# Altium integrated library TI_Logic_Specialty_Logic.IntLib: 2504 symbols (part 14 of 81)
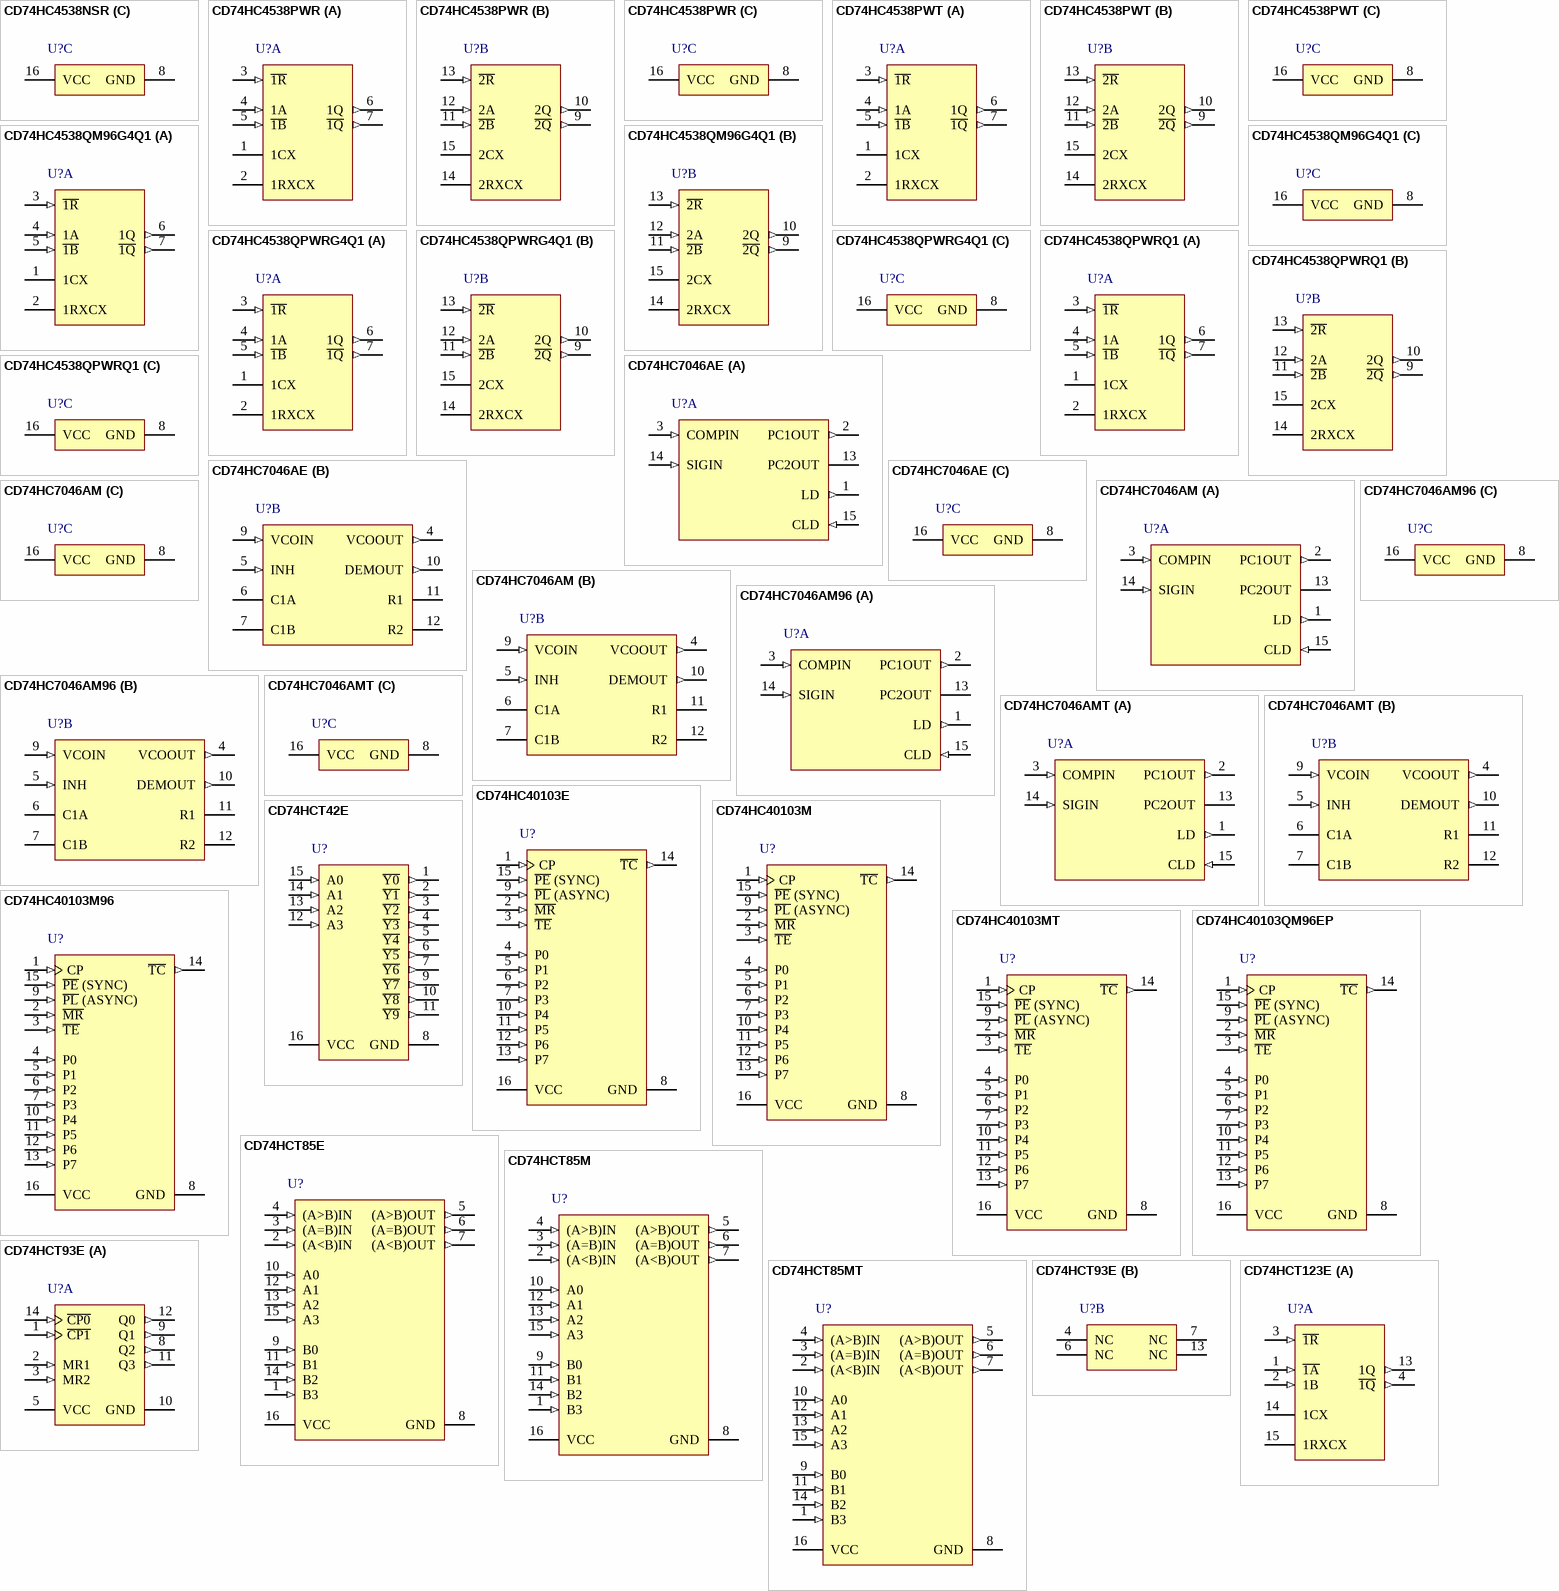
[diagram p117: symbols CD74HC4538NSR to CD74HCT123E]

## CD74HC4538PWR
designator U?
High Speed CMOS Logic Dual Retriggerable Precision Monostable Multivibrators, PW0016A, LARGE T&R; Generic Part Number: CD74HC4538; Manufacturer: Texas Instruments; PartNumber: CD74HC4538PWR; VCC(Min)(V): 2; VCC(Max)(V): 6; ICC @ Nom Voltage(Max)(mA): 0.08; Input Type: LVTTL/CMOS; F @ Nom Voltage(Max)(Mhz): 70; Rating: Catalog; Technology Family: HC; Voltage(Nom)(V): 3.3,5; Schmitt Trigger: No; Output Drive (IOL/IOH)(Max)(mA): 5.2/-5.2; tpd @ Nom Voltage(Max)(ns): 54; DatasheetVersion: SCHS123E; PackageReference: PW0016A; Supplier 1: Mouser; Supplier Part Number 1: 595-CD74HC4538PWR; Supplier 2: Digi-Key; Supplier Part Number 2: 296-26008-2-ND; Supplier 3: Digi-Key; Supplier Part Number 3: 296-26008-1-ND; Supplier 4: Digi-Key; Supplier Part Number 4: 296-26008-6-ND; Output Type: CMOS; Bits(#): 2; Operating Temperature Range(C): -55 to 125; Code_JEDEC: MO-153; ComponentLink1Description: Manufacturer URL; ComponentLink1URL: http://www.ti.com/; ComponentLink2Description: Datasheet; ComponentLink2URL: http://www.ti.com/lit/ds/symlink/cd74hc4538.pdf; ComponentLink3Description: Package Specification; ComponentLink3URL: http://www.ti.com/lit/ml/mpds361/mpds361.pdf
footprint PW0016A_N (SOP, 16-Leads, Body 5.1x4.5mm, Pitch 0.65mm, IPC Medium Density)
footprint PW0016A_M (SOP, 16-Leads, Body 5.1x4.5mm, Pitch 0.65mm, IPC Low Density)
footprint PW0016A_L (SOP, 16-Leads, Body 5.1x4.5mm, Pitch 0.65mm, IPC High Density)
part A pins: 1 1CX, 2 1RXCX, 3 ~{1R} (in), 4 1A (in), 5 ~{1B} (in), 6 1Q (out), 7 ~{1Q} (out)
part B pins: 9 ~{2Q} (out), 10 2Q (out), 11 ~{2B} (in), 12 2A (in), 13 ~{2R} (in), 14 2RXCX, 15 2CX
part C pins: 8 GND (power), 16 VCC (power)

## CD74HC4538PWT
designator U?
High Speed CMOS Logic Dual Retriggerable Precision Monostable Multivibrators, PW0016A, SMALL T&R; Generic Part Number: CD74HC4538; Manufacturer: Texas Instruments; PartNumber: CD74HC4538PWT; VCC(Min)(V): 2; VCC(Max)(V): 6; ICC @ Nom Voltage(Max)(mA): 0.08; Input Type: LVTTL/CMOS; F @ Nom Voltage(Max)(Mhz): 70; Rating: Catalog; Technology Family: HC; Voltage(Nom)(V): 3.3,5; Schmitt Trigger: No; Output Drive (IOL/IOH)(Max)(mA): 5.2/-5.2; tpd @ Nom Voltage(Max)(ns): 54; DatasheetVersion: SCHS123E; PackageReference: PW0016A; Supplier 1: Mouser; Supplier Part Number 1: 595-CD74HC4538PWT; Supplier 2: Digi-Key; Supplier Part Number 2: 296-32074-2-ND; Supplier 3: Digi-Key; Supplier Part Number 3: 296-32074-1-ND; Supplier 4: Digi-Key; Supplier Part Number 4: 296-32074-6-ND; Output Type: CMOS; Bits(#): 2; Operating Temperature Range(C): -55 to 125; Code_JEDEC: MO-153; ComponentLink1Description: Manufacturer URL; ComponentLink1URL: http://www.ti.com/; ComponentLink2Description: Datasheet; ComponentLink2URL: http://www.ti.com/lit/ds/symlink/cd74hc4538.pdf; ComponentLink3Description: Package Specification; ComponentLink3URL: http://www.ti.com/lit/ml/mpds361/mpds361.pdf
footprint PW0016A_N (SOP, 16-Leads, Body 5.1x4.5mm, Pitch 0.65mm, IPC Medium Density)
footprint PW0016A_M (SOP, 16-Leads, Body 5.1x4.5mm, Pitch 0.65mm, IPC Low Density)
footprint PW0016A_L (SOP, 16-Leads, Body 5.1x4.5mm, Pitch 0.65mm, IPC High Density)
part A pins: 1 1CX, 2 1RXCX, 3 ~{1R} (in), 4 1A (in), 5 ~{1B} (in), 6 1Q (out), 7 ~{1Q} (out)
part B pins: 9 ~{2Q} (out), 10 2Q (out), 11 ~{2B} (in), 12 2A (in), 13 ~{2R} (in), 14 2RXCX, 15 2CX
part C pins: 8 GND (power), 16 VCC (power)

## CD74HC4538QM96G4Q1
designator U?
Automotive Catalog High Speed CMOS Logic Dual Retriggerable Precision Monostable Multivibrators, D0016A, LARGE T&R; Generic Part Number: CD74HC4538-Q1; Manufacturer: Texas Instruments; PartNumber: CD74HC4538QM96G4Q1; VCC(Min)(V): 2; VCC(Max)(V): 6; ICC @ Nom Voltage(Max)(mA): 0.08; Input Type: LVTTL/CMOS; F @ Nom Voltage(Max)(Mhz): 70; Technology Family: HC; Voltage(Nom)(V): 3.3,5; Schmitt Trigger: No; Output Drive (IOL/IOH)(Max)(mA): 5.2/-5.2; tpd @ Nom Voltage(Max)(ns): 54; DatasheetVersion: SCLS595A; PackageReference: D0016A; Supplier 1: Mouser; Supplier Part Number 1: 595-74HC4538QM96G4Q1; Supplier 2: Digi-Key; Supplier Part Number 2: 296-23790-2-ND; Supplier 3: Digi-Key; Supplier Part Number 3: 296-23790-1-ND; Supplier 4: Digi-Key; Supplier Part Number 4: 296-23790-6-ND; Output Type: CMOS; Bits(#): 2; Operating Temperature Range(C): -40 to 125; Rating: Automotive; Code_JEDEC: MS-012 variation AC; ComponentLink1Description: Manufacturer URL; ComponentLink1URL: http://www.ti.com/; ComponentLink2Description: Datasheet; ComponentLink2URL: http://www.ti.com/lit/ds/symlink/cd74hc4538-q1.pdf; ComponentLink3Description: Package Specification; ComponentLink3URL: http://www.ti.com/lit/ml/mpds178g/mpds178g.pdf
footprint D0016A_N (SOIC, 16-Leads, Body 10x4mm, Pitch 1.27mm, IPC Medium Density)
footprint D0016A_M (SOIC, 16-Leads, Body 10x4mm, Pitch 1.27mm, IPC Low Density)
footprint D0016A_L (SOIC, 16-Leads, Body 10x4mm, Pitch 1.27mm, IPC High Density)
part A pins: 1 1CX, 2 1RXCX, 3 ~{1R} (in), 4 1A (in), 5 ~{1B} (in), 6 1Q (out), 7 ~{1Q} (out)
part B pins: 9 ~{2Q} (out), 10 2Q (out), 11 ~{2B} (in), 12 2A (in), 13 ~{2R} (in), 14 2RXCX, 15 2CX
part C pins: 8 GND (power), 16 VCC (power)

## CD74HC4538QPWRG4Q1
designator U?
Automotive Catalog High Speed CMOS Logic Dual Retriggerable Precision Monostable Multivibrators, PW0016A, LARGE T&R; Generic Part Number: CD74HC4538-Q1; Manufacturer: Texas Instruments; PartNumber: CD74HC4538QPWRG4Q1; VCC(Min)(V): 2; VCC(Max)(V): 6; ICC @ Nom Voltage(Max)(mA): 0.08; Input Type: LVTTL/CMOS; F @ Nom Voltage(Max)(Mhz): 70; Technology Family: HC; Voltage(Nom)(V): 3.3,5; Schmitt Trigger: No; Output Drive (IOL/IOH)(Max)(mA): 5.2/-5.2; tpd @ Nom Voltage(Max)(ns): 54; DatasheetVersion: SCLS595A; PackageReference: PW0016A; Supplier 1: Mouser; Supplier Part Number 1: 595-74HC4538QPWRG4Q1; Supplier 2: Digi-Key; Supplier Part Number 2: 296-23700-2-ND; Supplier 3: Digi-Key; Supplier Part Number 3: 296-23700-1-ND; Supplier 4: Digi-Key; Supplier Part Number 4: 296-23700-6-ND; Output Type: CMOS; Bits(#): 2; Operating Temperature Range(C): -40 to 125; Rating: Automotive; Code_JEDEC: MO-153; ComponentLink1Description: Manufacturer URL; ComponentLink1URL: http://www.ti.com/; ComponentLink2Description: Datasheet; ComponentLink2URL: http://www.ti.com/lit/ds/symlink/cd74hc4538-q1.pdf; ComponentLink3Description: Package Specification; ComponentLink3URL: http://www.ti.com/lit/ml/mpds361/mpds361.pdf
footprint PW0016A_N (SOP, 16-Leads, Body 5.1x4.5mm, Pitch 0.65mm, IPC Medium Density)
footprint PW0016A_M (SOP, 16-Leads, Body 5.1x4.5mm, Pitch 0.65mm, IPC Low Density)
footprint PW0016A_L (SOP, 16-Leads, Body 5.1x4.5mm, Pitch 0.65mm, IPC High Density)
part A pins: 1 1CX, 2 1RXCX, 3 ~{1R} (in), 4 1A (in), 5 ~{1B} (in), 6 1Q (out), 7 ~{1Q} (out)
part B pins: 9 ~{2Q} (out), 10 2Q (out), 11 ~{2B} (in), 12 2A (in), 13 ~{2R} (in), 14 2RXCX, 15 2CX
part C pins: 8 GND (power), 16 VCC (power)

## CD74HC4538QPWRQ1
designator U?
Automotive Catalog High Speed CMOS Logic Dual Retriggerable Precision Monostable Multivibrators, PW0016A, LARGE T&R; Generic Part Number: CD74HC4538-Q1; Manufacturer: Texas Instruments; PartNumber: CD74HC4538QPWRQ1; VCC(Min)(V): 2; VCC(Max)(V): 6; ICC @ Nom Voltage(Max)(mA): 0.08; Input Type: LVTTL/CMOS; F @ Nom Voltage(Max)(Mhz): 70; Technology Family: HC; Voltage(Nom)(V): 3.3,5; Schmitt Trigger: No; Output Drive (IOL/IOH)(Max)(mA): 5.2/-5.2; tpd @ Nom Voltage(Max)(ns): 54; DatasheetVersion: SCLS595A; PackageReference: PW0016A; Supplier 1: Mouser; Supplier Part Number 1: 595-CD74HC4538QPWRQ1; Supplier 2: Digi-Key; Supplier Part Number 2: CD74HC4538QPWRQ1-ND; Output Type: CMOS; Bits(#): 2; Operating Temperature Range(C): -40 to 125; Rating: Automotive; Code_JEDEC: MO-153; ComponentLink1Description: Manufacturer URL; ComponentLink1URL: http://www.ti.com/; ComponentLink2Description: Datasheet; ComponentLink2URL: http://www.ti.com/lit/ds/symlink/cd74hc4538-q1.pdf; ComponentLink3Description: Package Specification; ComponentLink3URL: http://www.ti.com/lit/ml/mpds361/mpds361.pdf
footprint PW0016A_N (SOP, 16-Leads, Body 5.1x4.5mm, Pitch 0.65mm, IPC Medium Density)
footprint PW0016A_M (SOP, 16-Leads, Body 5.1x4.5mm, Pitch 0.65mm, IPC Low Density)
footprint PW0016A_L (SOP, 16-Leads, Body 5.1x4.5mm, Pitch 0.65mm, IPC High Density)
part A pins: 1 1CX, 2 1RXCX, 3 ~{1R} (in), 4 1A (in), 5 ~{1B} (in), 6 1Q (out), 7 ~{1Q} (out)
part B pins: 9 ~{2Q} (out), 10 2Q (out), 11 ~{2B} (in), 12 2A (in), 13 ~{2R} (in), 14 2RXCX, 15 2CX
part C pins: 8 GND (power), 16 VCC (power)

## CD74HC7046AE
designator U?
High Speed CMOS Logic Phase-Locked Loop with VCO and Lock Detector, N0016A, TUBE; Generic Part Number: CD74HC7046A; Manufacturer: Texas Instruments; PartNumber: CD74HC7046AE; VCC(Min)(V): 2; VCC(Max)(V): 6; ICC @ Nom Voltage(Max)(mA): 0.08; Bits(#): 1; F @ Nom Voltage(Max)(Mhz): 70; Rating: Catalog; Technology Family: HC; Voltage(Nom)(V): 3.3,5; Schmitt Trigger: No; Output Drive (IOL/IOH)(Max)(mA): 5.2/-5.2; tpd @ Nom Voltage(Max)(ns): 43; DatasheetVersion: SCHS218C; PackageReference: N0016A; Supplier 1: Mouser; Supplier Part Number 1: 595-CD74HC7046AE; Supplier 2: Digi-Key; Supplier Part Number 2: 296-9237-5-ND; Output Type: CMOS; Input Type: CMOS; Operating Temperature Range(C): -55 to 125; ComponentLink1Description: Manufacturer URL; ComponentLink1URL: http://www.ti.com/; ComponentLink2Description: Datasheet; ComponentLink2URL: http://www.ti.com/lit/ds/symlink/cd74hc7046a.pdf
footprint N0016A (DIP, 16-Leads, Body 19.7x6.6mm, Pitch 2.54mm)
part A pins: 1 LD (out) "Lock Detector Output (Active High)", 2 PC1OUT (out) "Phase Comparator 1 Output", 3 COMPIN (in) "Comparator Input", 13 PC2OUT (hiz) "Phase Comparator 2 Output", 14 SIGIN (in) "Signal Input", 15 CLD (in) "Lock Detector Capacitor Input"
part B pins: 4 VCOOUT (out) "VCO Output", 5 INH (in) "Inhibit Input", 6 C1A "Capacitor C1 Connection A", 7 C1B "Capacitor C1 Connection B", 9 VCOIN (in) "VCO Input", 10 DEMOUT (out) "Demodulator Output", 11 R1 "Resistor R1 Connection", 12 R2 "Resistor R2 Connection"
part C pins: 8 GND (power) "Ground (0V)", 16 VCC (power) "Positive Supply Voltage"

## CD74HC7046AM
designator U?
High Speed CMOS Logic Phase-Locked Loop with VCO and Lock Detector, D0016A, TUBE; Generic Part Number: CD74HC7046A; Manufacturer: Texas Instruments; PartNumber: CD74HC7046AM; VCC(Min)(V): 2; VCC(Max)(V): 6; ICC @ Nom Voltage(Max)(mA): 0.08; Bits(#): 1; F @ Nom Voltage(Max)(Mhz): 70; Rating: Catalog; Technology Family: HC; Voltage(Nom)(V): 3.3,5; Schmitt Trigger: No; Output Drive (IOL/IOH)(Max)(mA): 5.2/-5.2; tpd @ Nom Voltage(Max)(ns): 43; DatasheetVersion: SCHS218C; PackageReference: D0016A; Supplier 1: Mouser; Supplier Part Number 1: 595-CD74HC7046AM; Supplier 2: Digi-Key; Supplier Part Number 2: 296-9238-5-ND; Output Type: CMOS; Input Type: CMOS; Operating Temperature Range(C): -55 to 125; ComponentLink1Description: Manufacturer URL; ComponentLink1URL: http://www.ti.com/; ComponentLink2Description: Datasheet; ComponentLink2URL: http://www.ti.com/lit/ds/symlink/cd74hc7046a.pdf
footprint D0016A_N (SOIC, 16-Leads, Body 10x4mm, Pitch 1.27mm, IPC Medium Density)
footprint D0016A_M (SOIC, 16-Leads, Body 10x4mm, Pitch 1.27mm, IPC Low Density)
footprint D0016A_L (SOIC, 16-Leads, Body 10x4mm, Pitch 1.27mm, IPC High Density)
part A pins: 1 LD (out) "Lock Detector Output (Active High)", 2 PC1OUT (out) "Phase Comparator 1 Output", 3 COMPIN (in) "Comparator Input", 13 PC2OUT (hiz) "Phase Comparator 2 Output", 14 SIGIN (in) "Signal Input", 15 CLD (in) "Lock Detector Capacitor Input"
part B pins: 4 VCOOUT (out) "VCO Output", 5 INH (in) "Inhibit Input", 6 C1A "Capacitor C1 Connection A", 7 C1B "Capacitor C1 Connection B", 9 VCOIN (in) "VCO Input", 10 DEMOUT (out) "Demodulator Output", 11 R1 "Resistor R1 Connection", 12 R2 "Resistor R2 Connection"
part C pins: 8 GND (power) "Ground (0V)", 16 VCC (power) "Positive Supply Voltage"

## CD74HC7046AM96
designator U?
High Speed CMOS Logic Phase-Locked Loop with VCO and Lock Detector, D0016A, LARGE T&R; Generic Part Number: CD74HC7046A; Manufacturer: Texas Instruments; PartNumber: CD74HC7046AM96; VCC(Min)(V): 2; VCC(Max)(V): 6; ICC @ Nom Voltage(Max)(mA): 0.08; Bits(#): 1; F @ Nom Voltage(Max)(Mhz): 70; Rating: Catalog; Technology Family: HC; Voltage(Nom)(V): 3.3,5; Schmitt Trigger: No; Output Drive (IOL/IOH)(Max)(mA): 5.2/-5.2; tpd @ Nom Voltage(Max)(ns): 43; DatasheetVersion: SCHS218C; PackageReference: D0016A; Supplier 1: Mouser; Supplier Part Number 1: 595-CD74HC7046AM96; Supplier 2: Digi-Key; Supplier Part Number 2: CD74HC7046AM96-ND; Output Type: CMOS; Input Type: CMOS; Operating Temperature Range(C): -55 to 125; ComponentLink1Description: Manufacturer URL; ComponentLink1URL: http://www.ti.com/; ComponentLink2Description: Datasheet; ComponentLink2URL: http://www.ti.com/lit/ds/symlink/cd74hc7046a.pdf
footprint D0016A_N (SOIC, 16-Leads, Body 10x4mm, Pitch 1.27mm, IPC Medium Density)
footprint D0016A_M (SOIC, 16-Leads, Body 10x4mm, Pitch 1.27mm, IPC Low Density)
footprint D0016A_L (SOIC, 16-Leads, Body 10x4mm, Pitch 1.27mm, IPC High Density)
part A pins: 1 LD (out) "Lock Detector Output (Active High)", 2 PC1OUT (out) "Phase Comparator 1 Output", 3 COMPIN (in) "Comparator Input", 13 PC2OUT (hiz) "Phase Comparator 2 Output", 14 SIGIN (in) "Signal Input", 15 CLD (in) "Lock Detector Capacitor Input"
part B pins: 4 VCOOUT (out) "VCO Output", 5 INH (in) "Inhibit Input", 6 C1A "Capacitor C1 Connection A", 7 C1B "Capacitor C1 Connection B", 9 VCOIN (in) "VCO Input", 10 DEMOUT (out) "Demodulator Output", 11 R1 "Resistor R1 Connection", 12 R2 "Resistor R2 Connection"
part C pins: 8 GND (power) "Ground (0V)", 16 VCC (power) "Positive Supply Voltage"

## CD74HC7046AMT
designator U?
High Speed CMOS Logic Phase-Locked Loop with VCO and Lock Detector, D0016A, SMALL T&R; Generic Part Number: CD74HC7046A; Manufacturer: Texas Instruments; PartNumber: CD74HC7046AMT; VCC(Min)(V): 2; VCC(Max)(V): 6; ICC @ Nom Voltage(Max)(mA): 0.08; Bits(#): 1; F @ Nom Voltage(Max)(Mhz): 70; Rating: Catalog; Technology Family: HC; Voltage(Nom)(V): 3.3,5; Schmitt Trigger: No; Output Drive (IOL/IOH)(Max)(mA): 5.2/-5.2; tpd @ Nom Voltage(Max)(ns): 43; DatasheetVersion: SCHS218C; PackageReference: D0016A; Supplier 1: Mouser; Supplier Part Number 1: 595-CD74HC7046AMT; Supplier 2: Digi-Key; Supplier Part Number 2: 296-32077-2-ND; Supplier 3: Digi-Key; Supplier Part Number 3: 296-32077-1-ND; Supplier 4: Digi-Key; Supplier Part Number 4: 296-32077-6-ND; Output Type: CMOS; Input Type: CMOS; Operating Temperature Range(C): -55 to 125; ComponentLink1Description: Manufacturer URL; ComponentLink1URL: http://www.ti.com/; ComponentLink2Description: Datasheet; ComponentLink2URL: http://www.ti.com/lit/ds/symlink/cd74hc7046a.pdf
footprint D0016A_N (SOIC, 16-Leads, Body 10x4mm, Pitch 1.27mm, IPC Medium Density)
footprint D0016A_M (SOIC, 16-Leads, Body 10x4mm, Pitch 1.27mm, IPC Low Density)
footprint D0016A_L (SOIC, 16-Leads, Body 10x4mm, Pitch 1.27mm, IPC High Density)
part A pins: 1 LD (out) "Lock Detector Output (Active High)", 2 PC1OUT (out) "Phase Comparator 1 Output", 3 COMPIN (in) "Comparator Input", 13 PC2OUT (hiz) "Phase Comparator 2 Output", 14 SIGIN (in) "Signal Input", 15 CLD (in) "Lock Detector Capacitor Input"
part B pins: 4 VCOOUT (out) "VCO Output", 5 INH (in) "Inhibit Input", 6 C1A "Capacitor C1 Connection A", 7 C1B "Capacitor C1 Connection B", 9 VCOIN (in) "VCO Input", 10 DEMOUT (out) "Demodulator Output", 11 R1 "Resistor R1 Connection", 12 R2 "Resistor R2 Connection"
part C pins: 8 GND (power) "Ground (0V)", 16 VCC (power) "Positive Supply Voltage"

## CD74HC40103E
designator U?
High Speed CMOS Logic 8-Stage Synchronous Down Counters, N0016A, TUBE; Generic Part Number: CD74HC40103; Manufacturer: Texas Instruments; PartNumber: CD74HC40103E; VCC(Min)(V): 2; VCC(Max)(V): 6; Inputs: 1; ICC @ Nom Voltage(Max)(mA): 0.08; Input Type: LVTTL/CMOS; Bits(#): 8; F @ Nom Voltage(Max)(Mhz): 28; Rating: Catalog; Technology Family: HC; Voltage(Nom)(V): 3.3,5; Schmitt Trigger: No; Output Drive (IOL/IOH)(Max)(mA): 5.2/-5.2; tpd @ Nom Voltage(Max)(ns): 64; DatasheetVersion: SCHS221D; PackageReference: N0016A; Supplier 1: Mouser; Supplier Part Number 1: 595-CD74HC40103E; Supplier 2: Digi-Key; Supplier Part Number 2: 296-9200-5-ND; Output Type: CMOS; Function: Counter; Operating Temperature Range(C): -55 to 125; Type: Binary; Code_JEDEC: MS-001; ComponentLink1Description: Manufacturer URL; ComponentLink1URL: http://www.ti.com/; ComponentLink2Description: Datasheet; ComponentLink2URL: http://www.ti.com/lit/ds/symlink/cd74hc40103.pdf; ComponentLink3Description: Package Specification; ComponentLink3URL: http://www.ti.com/lit/ml/mpdi002c/mpdi002c.pdf
footprint N0016A (DIP, 16-Leads, Body 19.7x6.6mm, Pitch 2.54mm)
pins: 1 CP (in), 2 ~{MR} (in), 3 ~{TE} (in), 4 P0 (in), 5 P1 (in), 6 P2 (in), 7 P3 (in), 8 GND (power), 9 ~{PL} (ASYNC) (in), 10 P4 (in), 11 P5 (in), 12 P6 (in), 13 P7 (in), 14 ~{TC} (out), 15 ~{PE} (SYNC) (in), 16 VCC (power)

## CD74HC40103M
designator U?
High Speed CMOS Logic 8-Stage Synchronous Down Counters, D0016A, TUBE; Generic Part Number: CD74HC40103; Manufacturer: Texas Instruments; PartNumber: CD74HC40103M; VCC(Min)(V): 2; VCC(Max)(V): 6; Inputs: 1; ICC @ Nom Voltage(Max)(mA): 0.08; Input Type: LVTTL/CMOS; Bits(#): 8; F @ Nom Voltage(Max)(Mhz): 28; Rating: Catalog; Technology Family: HC; Voltage(Nom)(V): 3.3,5; Schmitt Trigger: No; Output Drive (IOL/IOH)(Max)(mA): 5.2/-5.2; tpd @ Nom Voltage(Max)(ns): 64; DatasheetVersion: SCHS221D; PackageReference: D0016A; Supplier 1: Mouser; Supplier Part Number 1: 595-CD74HC40103M; Supplier 2: Digi-Key; Supplier Part Number 2: 296-9201-5-ND; Output Type: CMOS; Function: Counter; Operating Temperature Range(C): -55 to 125; Type: Binary; Code_JEDEC: MS-012 variation AC; ComponentLink1Description: Manufacturer URL; ComponentLink1URL: http://www.ti.com/; ComponentLink2Description: Datasheet; ComponentLink2URL: http://www.ti.com/lit/ds/symlink/cd74hc40103.pdf; ComponentLink3Description: Package Specification; ComponentLink3URL: http://www.ti.com/lit/ml/mpds178g/mpds178g.pdf
footprint D0016A_N (SOIC, 16-Leads, Body 10x4mm, Pitch 1.27mm, IPC Medium Density)
footprint D0016A_M (SOIC, 16-Leads, Body 10x4mm, Pitch 1.27mm, IPC Low Density)
footprint D0016A_L (SOIC, 16-Leads, Body 10x4mm, Pitch 1.27mm, IPC High Density)
pins: 1 CP (in), 2 ~{MR} (in), 3 ~{TE} (in), 4 P0 (in), 5 P1 (in), 6 P2 (in), 7 P3 (in), 8 GND (power), 9 ~{PL} (ASYNC) (in), 10 P4 (in), 11 P5 (in), 12 P6 (in), 13 P7 (in), 14 ~{TC} (out), 15 ~{PE} (SYNC) (in), 16 VCC (power)

## CD74HC40103M96
designator U?
High Speed CMOS Logic 8-Stage Synchronous Down Counters, D0016A, LARGE T&R; Generic Part Number: CD74HC40103; Manufacturer: Texas Instruments; PartNumber: CD74HC40103M96; VCC(Min)(V): 2; VCC(Max)(V): 6; Inputs: 1; ICC @ Nom Voltage(Max)(mA): 0.08; Input Type: LVTTL/CMOS; Bits(#): 8; F @ Nom Voltage(Max)(Mhz): 28; Rating: Catalog; Technology Family: HC; Voltage(Nom)(V): 3.3,5; Schmitt Trigger: No; Output Drive (IOL/IOH)(Max)(mA): 5.2/-5.2; tpd @ Nom Voltage(Max)(ns): 64; DatasheetVersion: SCHS221D; PackageReference: D0016A; Supplier 1: Mouser; Supplier Part Number 1: 595-CD74HC40103M96; Supplier 2: Digi-Key; Supplier Part Number 2: 296-24354-2-ND; Supplier 3: Digi-Key; Supplier Part Number 3: 296-24354-1-ND; Supplier 4: Digi-Key; Supplier Part Number 4: 296-24354-6-ND; Output Type: CMOS; Function: Counter; Operating Temperature Range(C): -55 to 125; Type: Binary; Code_JEDEC: MS-012 variation AC; ComponentLink1Description: Manufacturer URL; ComponentLink1URL: http://www.ti.com/; ComponentLink2Description: Datasheet; ComponentLink2URL: http://www.ti.com/lit/ds/symlink/cd74hc40103.pdf; ComponentLink3Description: Package Specification; ComponentLink3URL: http://www.ti.com/lit/ml/mpds178g/mpds178g.pdf
footprint D0016A_N (SOIC, 16-Leads, Body 10x4mm, Pitch 1.27mm, IPC Medium Density)
footprint D0016A_M (SOIC, 16-Leads, Body 10x4mm, Pitch 1.27mm, IPC Low Density)
footprint D0016A_L (SOIC, 16-Leads, Body 10x4mm, Pitch 1.27mm, IPC High Density)
pins: 1 CP (in), 2 ~{MR} (in), 3 ~{TE} (in), 4 P0 (in), 5 P1 (in), 6 P2 (in), 7 P3 (in), 8 GND (power), 9 ~{PL} (ASYNC) (in), 10 P4 (in), 11 P5 (in), 12 P6 (in), 13 P7 (in), 14 ~{TC} (out), 15 ~{PE} (SYNC) (in), 16 VCC (power)

## CD74HC40103MT
designator U?
High Speed CMOS Logic 8-Stage Synchronous Down Counters, D0016A, SMALL T&R; Generic Part Number: CD74HC40103; Manufacturer: Texas Instruments; PartNumber: CD74HC40103MT; VCC(Min)(V): 2; VCC(Max)(V): 6; Inputs: 1; ICC @ Nom Voltage(Max)(mA): 0.08; Input Type: LVTTL/CMOS; Bits(#): 8; F @ Nom Voltage(Max)(Mhz): 28; Rating: Catalog; Technology Family: HC; Voltage(Nom)(V): 3.3,5; Schmitt Trigger: No; Output Drive (IOL/IOH)(Max)(mA): 5.2/-5.2; tpd @ Nom Voltage(Max)(ns): 64; DatasheetVersion: SCHS221D; PackageReference: D0016A; Supplier 1: Mouser; Supplier Part Number 1: 595-CD74HC40103MT; Supplier 2: Digi-Key; Supplier Part Number 2: CD74HC40103MT-ND; Output Type: CMOS; Function: Counter; Operating Temperature Range(C): -55 to 125; Type: Binary; Code_JEDEC: MS-012 variation AC; ComponentLink1Description: Manufacturer URL; ComponentLink1URL: http://www.ti.com/; ComponentLink2Description: Datasheet; ComponentLink2URL: http://www.ti.com/lit/ds/symlink/cd74hc40103.pdf; ComponentLink3Description: Package Specification; ComponentLink3URL: http://www.ti.com/lit/ml/mpds178g/mpds178g.pdf
footprint D0016A_N (SOIC, 16-Leads, Body 10x4mm, Pitch 1.27mm, IPC Medium Density)
footprint D0016A_M (SOIC, 16-Leads, Body 10x4mm, Pitch 1.27mm, IPC Low Density)
footprint D0016A_L (SOIC, 16-Leads, Body 10x4mm, Pitch 1.27mm, IPC High Density)
pins: 1 CP (in), 2 ~{MR} (in), 3 ~{TE} (in), 4 P0 (in), 5 P1 (in), 6 P2 (in), 7 P3 (in), 8 GND (power), 9 ~{PL} (ASYNC) (in), 10 P4 (in), 11 P5 (in), 12 P6 (in), 13 P7 (in), 14 ~{TC} (out), 15 ~{PE} (SYNC) (in), 16 VCC (power)

## CD74HC40103QM96EP
designator U?
Enhanced Product High Speed Cmos Logic 8-Stage Synchronous Down Counters, D0016A, LARGE T&R; Generic Part Number: CD74HC40103-EP; Manufacturer: Texas Instruments; PartNumber: CD74HC40103QM96EP; VCC(Min)(V): 2; VCC(Max)(V): 6; Inputs: 1; ICC @ Nom Voltage(Max)(mA): 0.08; Bits(#): 8; F @ Nom Voltage(Max)(Mhz): 28; Rating: HiRel Enhanced Product; Technology Family: HC; Output Drive (IOL/IOH)(Max)(mA): 5.2/-5.2; tpd @ Nom Voltage(Max)(ns): 64; DatasheetVersion: SCLS548; PackageReference: D0016A; Supplier 1: Mouser; Supplier Part Number 1: 595-C74HC40103QM96EP; Supplier 2: Digi-Key; Supplier Part Number 2: 296-22101-2-ND; Supplier 3: Digi-Key; Supplier Part Number 3: 296-22101-1-ND; Supplier 4: Digi-Key; Supplier Part Number 4: 296-22101-6-ND; Function: Counter; Operating Temperature Range(C): -40 to 125; Type: Binary; Voltage(Nom)(V): 6; Code_JEDEC: MS-012 variation AC; ComponentLink1Description: Manufacturer URL; ComponentLink1URL: http://www.ti.com/; ComponentLink2Description: Datasheet; ComponentLink2URL: http://www.ti.com/lit/ds/symlink/cd74hc40103-ep.pdf; ComponentLink3Description: Package Specification; ComponentLink3URL: http://www.ti.com/lit/ml/mpds178g/mpds178g.pdf
footprint D0016A_N (SOIC, 16-Leads, Body 10x4mm, Pitch 1.27mm, IPC Medium Density)
footprint D0016A_M (SOIC, 16-Leads, Body 10x4mm, Pitch 1.27mm, IPC Low Density)
footprint D0016A_L (SOIC, 16-Leads, Body 10x4mm, Pitch 1.27mm, IPC High Density)
pins: 1 CP (in), 2 ~{MR} (in), 3 ~{TE} (in), 4 P0 (in), 5 P1 (in), 6 P2 (in), 7 P3 (in), 8 GND (power), 9 ~{PL} (ASYNC) (in), 10 P4 (in), 11 P5 (in), 12 P6 (in), 13 P7 (in), 14 ~{TC} (out), 15 ~{PE} (SYNC) (in), 16 VCC (power)

## CD74HCT42E
designator U?
High Speed CMOS Logic 1-of-10 BCD to Decimal Decoder, N0016A, TUBE; Generic Part Number: CD74HCT42; Manufacturer: Texas Instruments; PartNumber: CD74HCT42E; VCC(Min)(V): 4.5; VCC(Max)(V): 5.5; Function: Decoder/Demultiplexer; ICC @ Nom Voltage(Max)(mA): 0.08; Input Type: TTL; Bits(#): 10; F @ Nom Voltage(Max)(Mhz): 25; Configuration: 4：10; Channels(#): 1; Rating: Catalog; Technology Family: HCT; Voltage(Nom)(V): 5; Schmitt Trigger: No; Output Drive (IOL/IOH)(Max)(mA): 4/-4; tpd @ Nom Voltage(Max)(ns): 35; DatasheetVersion: SCHS133C; PackageReference: N0016A; Supplier 1: Mouser; Supplier Part Number 1: 595-CD74HCT42E; Supplier 2: Digi-Key; Supplier Part Number 2: 296-33157-5-ND; Output Type: CMOS; Operating Temperature Range(C): -55 to 125; Type: Standard; Code_JEDEC: MS-001; ComponentLink1Description: Manufacturer URL; ComponentLink1URL: http://www.ti.com/; ComponentLink2Description: Datasheet; ComponentLink2URL: http://www.ti.com/lit/ds/symlink/cd74hct42.pdf; ComponentLink3Description: Package Specification; ComponentLink3URL: http://www.ti.com/lit/ml/mpdi002c/mpdi002c.pdf
footprint N0016A (DIP, 16-Leads, Body 19.7x6.6mm, Pitch 2.54mm)
pins: 1 ~{Y0} (out), 2 ~{Y1} (out), 3 ~{Y2} (out), 4 ~{Y3} (out), 5 ~{Y4} (out), 6 ~{Y5} (out), 7 ~{Y6} (out), 8 GND (power), 9 ~{Y7} (out), 10 ~{Y8} (out), 11 ~{Y9} (out), 12 A3 (in), 13 A2 (in), 14 A1 (in), 15 A0 (in), 16 VCC (power)

## CD74HCT85E
designator U?
4-Bit Magnitude Comparator, N0016A, TUBE; Generic Part Number: CD74HCT85; Manufacturer: Texas Instruments; PartNumber: CD74HCT85E; VCC(Min)(V): 4.5; VCC(Max)(V): 5.5; Output Type: CMOS; ICC @ Nom Voltage(Max)(mA): 0.08; Input Type: TTL; Bits(#): 4; F @ Nom Voltage(Max)(Mhz): 70; Rating: Catalog; Technology Family: HCT; Schmitt Trigger: No; Output Drive (IOL/IOH)(Max)(mA): 4/-4; tpd @ Nom Voltage(Max)(ns): 50; DatasheetVersion: SCHS136E; PackageReference: N0016A; Supplier 1: Mouser; Supplier Part Number 1: 595-CD74HCT85E; Supplier 2: Digi-Key; Supplier Part Number 2: 296-2137-5-ND; Operating Temperature Range(C): -55 to 125; Voltage(Nom)(V): 4.5; ComponentLink1Description: Manufacturer URL; ComponentLink1URL: http://www.ti.com/; ComponentLink2Description: Datasheet; ComponentLink2URL: http://www.ti.com/lit/ds/symlink/cd74hct85.pdf
footprint N0016A (DIP, 16-Leads, Body 19.7x6.6mm, Pitch 2.54mm)
pins: 1 B3 (in), 2 (A<B)IN (in), 3 (A=B)IN (in), 4 (A>B)IN (in), 5 (A>B)OUT (out), 6 (A=B)OUT (out), 7 (A<B)OUT (out), 8 GND (power), 9 B0 (in), 10 A0 (in), 11 B1 (in), 12 A1 (in), 13 A2 (in), 14 B2 (in), 15 A3 (in), 16 VCC (power)

## CD74HCT85M
designator U?
4-Bit Magnitude Comparator, D0016A, TUBE; Generic Part Number: CD74HCT85; Manufacturer: Texas Instruments; PartNumber: CD74HCT85M; VCC(Min)(V): 4.5; VCC(Max)(V): 5.5; Output Type: CMOS; ICC @ Nom Voltage(Max)(mA): 0.08; Input Type: TTL; Bits(#): 4; F @ Nom Voltage(Max)(Mhz): 70; Rating: Catalog; Technology Family: HCT; Schmitt Trigger: No; Output Drive (IOL/IOH)(Max)(mA): 4/-4; tpd @ Nom Voltage(Max)(ns): 50; DatasheetVersion: SCHS136E; PackageReference: D0016A; Supplier 1: Mouser; Supplier Part Number 1: 595-CD74HCT85M; Supplier 2: Digi-Key; Supplier Part Number 2: 296-33166-5-ND; Operating Temperature Range(C): -55 to 125; Voltage(Nom)(V): 4.5; ComponentLink1Description: Manufacturer URL; ComponentLink1URL: http://www.ti.com/; ComponentLink2Description: Datasheet; ComponentLink2URL: http://www.ti.com/lit/ds/symlink/cd74hct85.pdf
footprint D0016A_N (SOIC, 16-Leads, Body 10x4mm, Pitch 1.27mm, IPC Medium Density)
footprint D0016A_M (SOIC, 16-Leads, Body 10x4mm, Pitch 1.27mm, IPC Low Density)
footprint D0016A_L (SOIC, 16-Leads, Body 10x4mm, Pitch 1.27mm, IPC High Density)
pins: 1 B3 (in), 2 (A<B)IN (in), 3 (A=B)IN (in), 4 (A>B)IN (in), 5 (A>B)OUT (out), 6 (A=B)OUT (out), 7 (A<B)OUT (out), 8 GND (power), 9 B0 (in), 10 A0 (in), 11 B1 (in), 12 A1 (in), 13 A2 (in), 14 B2 (in), 15 A3 (in), 16 VCC (power)

## CD74HCT85MT
designator U?
4-Bit Magnitude Comparator, D0016A, SMALL T&R; Generic Part Number: CD74HCT85; Manufacturer: Texas Instruments; PartNumber: CD74HCT85MT; VCC(Min)(V): 4.5; VCC(Max)(V): 5.5; Output Type: CMOS; ICC @ Nom Voltage(Max)(mA): 0.08; Input Type: TTL; Bits(#): 4; F @ Nom Voltage(Max)(Mhz): 70; Rating: Catalog; Technology Family: HCT; Schmitt Trigger: No; Output Drive (IOL/IOH)(Max)(mA): 4/-4; tpd @ Nom Voltage(Max)(ns): 50; DatasheetVersion: SCHS136E; PackageReference: D0016A; Supplier 1: Mouser; Supplier Part Number 1: 595-CD74HCT85MT; Supplier 2: Digi-Key; Supplier Part Number 2: 296-32084-2-ND; Supplier 3: Digi-Key; Supplier Part Number 3: 296-32084-1-ND; Supplier 4: Digi-Key; Supplier Part Number 4: 296-32084-6-ND; Operating Temperature Range(C): -55 to 125; Voltage(Nom)(V): 4.5; ComponentLink1Description: Manufacturer URL; ComponentLink1URL: http://www.ti.com/; ComponentLink2Description: Datasheet; ComponentLink2URL: http://www.ti.com/lit/ds/symlink/cd74hct85.pdf
footprint D0016A_N (SOIC, 16-Leads, Body 10x4mm, Pitch 1.27mm, IPC Medium Density)
footprint D0016A_M (SOIC, 16-Leads, Body 10x4mm, Pitch 1.27mm, IPC Low Density)
footprint D0016A_L (SOIC, 16-Leads, Body 10x4mm, Pitch 1.27mm, IPC High Density)
pins: 1 B3 (in), 2 (A<B)IN (in), 3 (A=B)IN (in), 4 (A>B)IN (in), 5 (A>B)OUT (out), 6 (A=B)OUT (out), 7 (A<B)OUT (out), 8 GND (power), 9 B0 (in), 10 A0 (in), 11 B1 (in), 12 A1 (in), 13 A2 (in), 14 B2 (in), 15 A3 (in), 16 VCC (power)

## CD74HCT93E
designator U?
High Speed CMOS Logic 4-Bit Binary Ripple Counter, N0014A, TUBE; Generic Part Number: CD74HCT93; Manufacturer: Texas Instruments; PartNumber: CD74HCT93E; VCC(Min)(V): 4.5; VCC(Max)(V): 5.5; Inputs: 1; ICC @ Nom Voltage(Max)(mA): 0.08; Input Type: TTL; Bits(#): 4; F @ Nom Voltage(Max)(Mhz): 25; Rating: Catalog; Technology Family: HCT; Voltage(Nom)(V): 5; Schmitt Trigger: No; Output Drive (IOL/IOH)(Max)(mA): 4/-4; tpd @ Nom Voltage(Max)(ns): 73; DatasheetVersion: SCHS138C; PackageReference: N0014A; Supplier 1: Mouser; Supplier Part Number 1: 595-CD74HCT93E; Supplier 2: Digi-Key; Supplier Part Number 2: 296-2138-5-ND; Output Type: CMOS; Function: Counter; Operating Temperature Range(C): -55 to 125; Type: Binary; Code_JEDEC: MS-001; ComponentLink1Description: Manufacturer URL; ComponentLink1URL: http://www.ti.com/; ComponentLink2Description: Datasheet; ComponentLink2URL: http://www.ti.com/lit/ds/symlink/cd74hct93.pdf; ComponentLink3Description: Package Specification; ComponentLink3URL: http://www.ti.com/lit/ml/mpdi002c/mpdi002c.pdf
footprint N0014A (DIP, 14-Leads, Body 19.7x6.6mm, Pitch 2.54mm)
part A pins: 1 ~{CP1} (in), 2 MR1 (in), 3 MR2 (in), 5 VCC (power), 8 Q2 (out), 9 Q1 (out), 10 GND (power), 11 Q3 (out), 12 Q0 (out), 14 ~{CP0} (in)
part B pins: 4 NC, 6 NC, 7 NC, 13 NC

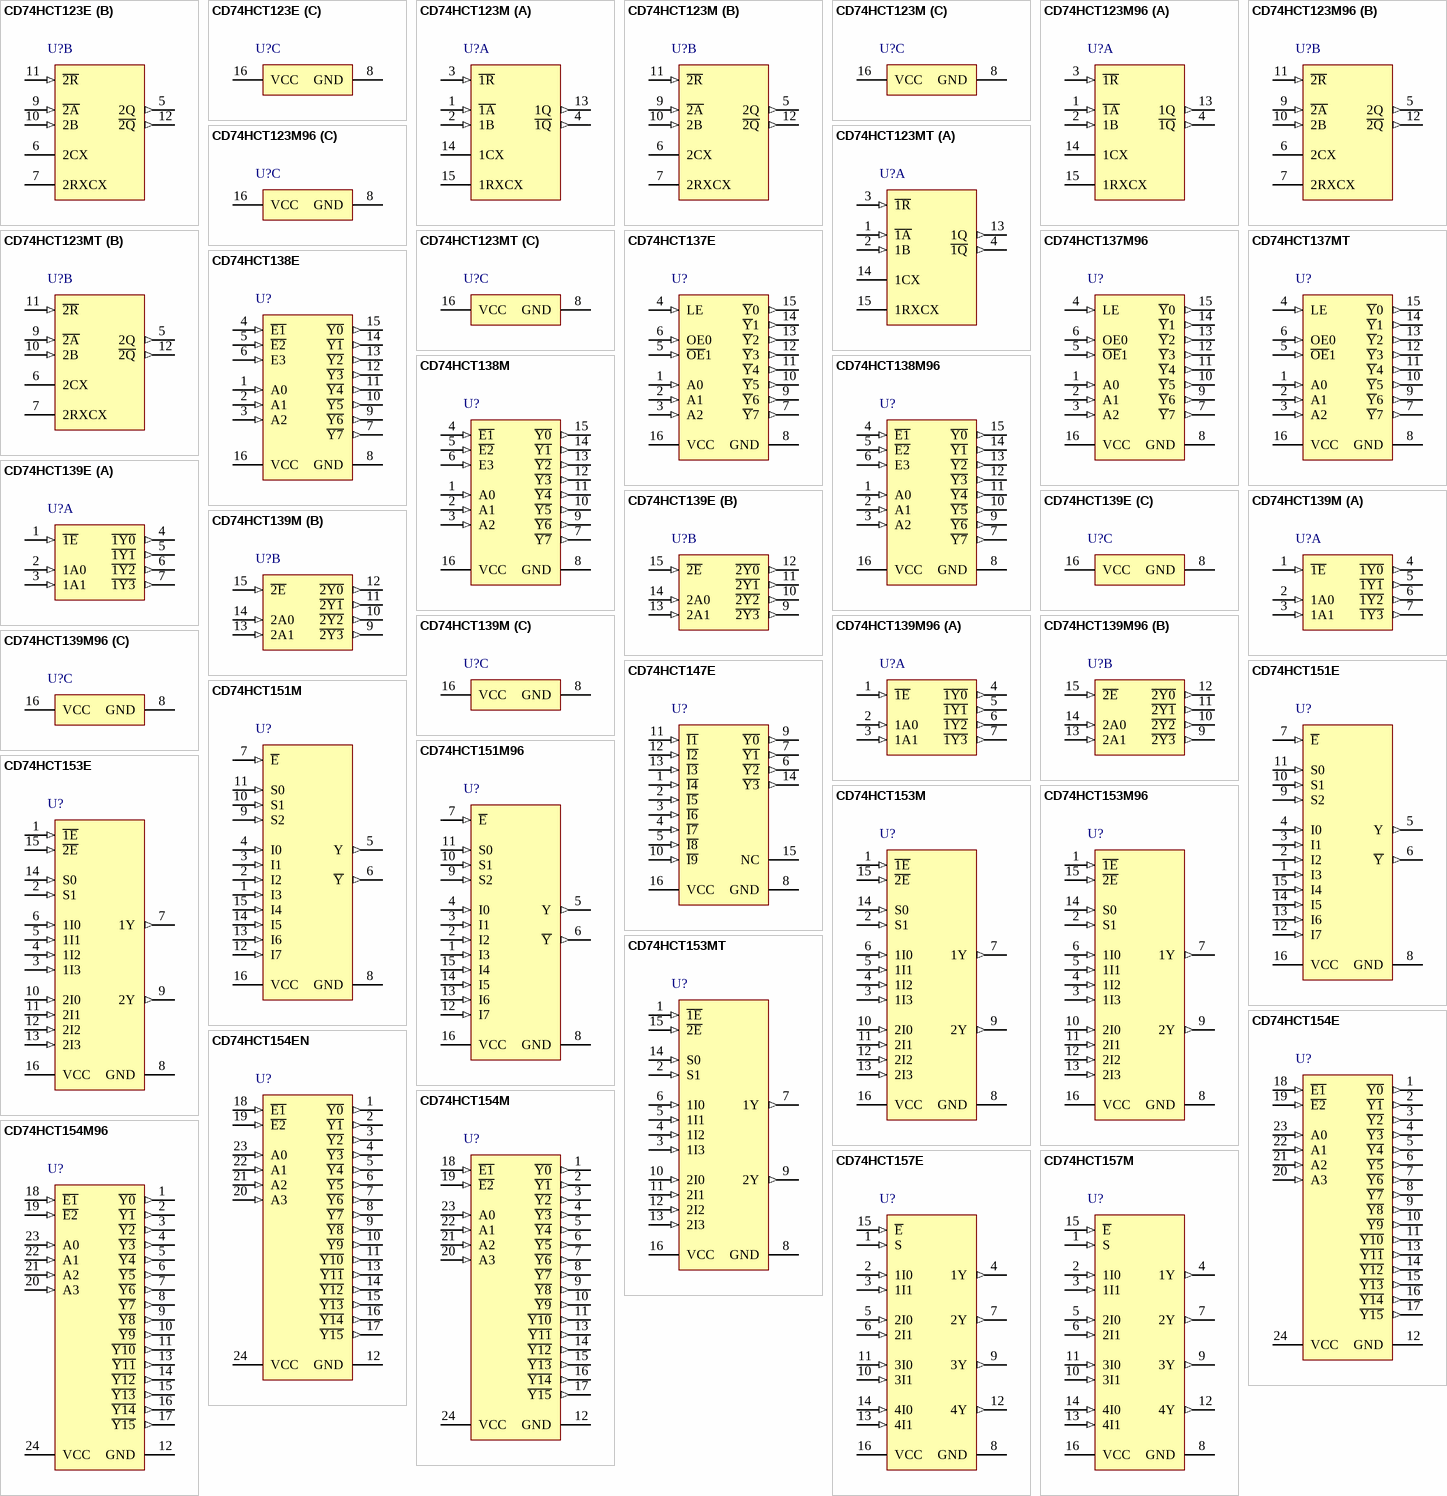
[diagram p18: symbols CD74HCT123E to CD74HCT157M]

## CD74HCT123E
designator U?
High Speed CMOS Logic Dual Retriggerable Monostable Multivibrators with Reset, N0016A, TUBE; Generic Part Number: CD74HCT123; Manufacturer: Texas Instruments; PartNumber: CD74HCT123E; VCC(Min)(V): 4.5; VCC(Max)(V): 5.5; ICC @ Nom Voltage(Max)(mA): 0.08; Input Type: TTL; Bits(#): 2; F @ Nom Voltage(Max)(Mhz): 25; Rating: Catalog; Technology Family: HCT; Voltage(Nom)(V): 5; Schmitt Trigger: No; Output Drive (IOL/IOH)(Max)(mA): 4/-4; tpd @ Nom Voltage(Max)(ns): 85; DatasheetVersion: SCHS142F; PackageReference: N0016A; Supplier 1: Mouser; Supplier Part Number 1: 595-CD74HCT123E; Supplier 2: Digi-Key; Supplier Part Number 2: 296-2088-5-ND; Output Type: CMOS; Operating Temperature Range(C): -55 to 125; Code_JEDEC: MS-001; ComponentLink1Description: Manufacturer URL; ComponentLink1URL: http://www.ti.com/; ComponentLink2Description: Datasheet; ComponentLink2URL: http://www.ti.com/lit/ds/symlink/cd74hct123.pdf; ComponentLink3Description: Package Specification; ComponentLink3URL: http://www.ti.com/lit/ml/mpdi002c/mpdi002c.pdf
footprint N0016A (DIP, 16-Leads, Body 19.7x6.6mm, Pitch 2.54mm)
part A pins: 1 ~{1A} (in), 2 1B (in), 3 ~{1R} (in), 4 ~{1Q} (out), 13 1Q (out), 14 1CX, 15 1RXCX
part B pins: 5 2Q (out), 6 2CX, 7 2RXCX, 9 ~{2A} (in), 10 2B (in), 11 ~{2R} (in), 12 ~{2Q} (out)
part C pins: 8 GND (power), 16 VCC (power)

## CD74HCT123M
designator U?
High Speed CMOS Logic Dual Retriggerable Monostable Multivibrators with Reset, D0016A, TUBE; Generic Part Number: CD74HCT123; Manufacturer: Texas Instruments; PartNumber: CD74HCT123M; VCC(Min)(V): 4.5; VCC(Max)(V): 5.5; ICC @ Nom Voltage(Max)(mA): 0.08; Input Type: TTL; Bits(#): 2; F @ Nom Voltage(Max)(Mhz): 25; Rating: Catalog; Technology Family: HCT; Voltage(Nom)(V): 5; Schmitt Trigger: No; Output Drive (IOL/IOH)(Max)(mA): 4/-4; tpd @ Nom Voltage(Max)(ns): 85; DatasheetVersion: SCHS142F; PackageReference: D0016A; Supplier 1: Mouser; Supplier Part Number 1: 595-CD74HCT123M; Supplier 2: Digi-Key; Supplier Part Number 2: 296-9250-5-ND; Output Type: CMOS; Operating Temperature Range(C): -55 to 125; Code_JEDEC: MS-012 variation AC; ComponentLink1Description: Manufacturer URL; ComponentLink1URL: http://www.ti.com/; ComponentLink2Description: Datasheet; ComponentLink2URL: http://www.ti.com/lit/ds/symlink/cd74hct123.pdf; ComponentLink3Description: Package Specification; ComponentLink3URL: http://www.ti.com/lit/ml/mpds178g/mpds178g.pdf
footprint D0016A_N (SOIC, 16-Leads, Body 10x4mm, Pitch 1.27mm, IPC Medium Density)
footprint D0016A_M (SOIC, 16-Leads, Body 10x4mm, Pitch 1.27mm, IPC Low Density)
footprint D0016A_L (SOIC, 16-Leads, Body 10x4mm, Pitch 1.27mm, IPC High Density)
part A pins: 1 ~{1A} (in), 2 1B (in), 3 ~{1R} (in), 4 ~{1Q} (out), 13 1Q (out), 14 1CX, 15 1RXCX
part B pins: 5 2Q (out), 6 2CX, 7 2RXCX, 9 ~{2A} (in), 10 2B (in), 11 ~{2R} (in), 12 ~{2Q} (out)
part C pins: 8 GND (power), 16 VCC (power)

## CD74HCT123M96
designator U?
High Speed CMOS Logic Dual Retriggerable Monostable Multivibrators with Reset, D0016A, LARGE T&R; Generic Part Number: CD74HCT123; Manufacturer: Texas Instruments; PartNumber: CD74HCT123M96; VCC(Min)(V): 4.5; VCC(Max)(V): 5.5; ICC @ Nom Voltage(Max)(mA): 0.08; Input Type: TTL; Bits(#): 2; F @ Nom Voltage(Max)(Mhz): 25; Rating: Catalog; Technology Family: HCT; Voltage(Nom)(V): 5; Schmitt Trigger: No; Output Drive (IOL/IOH)(Max)(mA): 4/-4; tpd @ Nom Voltage(Max)(ns): 85; DatasheetVersion: SCHS142F; PackageReference: D0016A; Supplier 1: Mouser; Supplier Part Number 1: 595-CD74HCT123M96; Supplier 2: Digi-Key; Supplier Part Number 2: 296-31602-2-ND; Supplier 3: Digi-Key; Supplier Part Number 3: 296-31602-1-ND; Supplier 4: Digi-Key; Supplier Part Number 4: 296-31602-6-ND; Output Type: CMOS; Operating Temperature Range(C): -55 to 125; Code_JEDEC: MS-012 variation AC; ComponentLink1Description: Manufacturer URL; ComponentLink1URL: http://www.ti.com/; ComponentLink2Description: Datasheet; ComponentLink2URL: http://www.ti.com/lit/ds/symlink/cd74hct123.pdf; ComponentLink3Description: Package Specification; ComponentLink3URL: http://www.ti.com/lit/ml/mpds178g/mpds178g.pdf
footprint D0016A_N (SOIC, 16-Leads, Body 10x4mm, Pitch 1.27mm, IPC Medium Density)
footprint D0016A_M (SOIC, 16-Leads, Body 10x4mm, Pitch 1.27mm, IPC Low Density)
footprint D0016A_L (SOIC, 16-Leads, Body 10x4mm, Pitch 1.27mm, IPC High Density)
part A pins: 1 ~{1A} (in), 2 1B (in), 3 ~{1R} (in), 4 ~{1Q} (out), 13 1Q (out), 14 1CX, 15 1RXCX
part B pins: 5 2Q (out), 6 2CX, 7 2RXCX, 9 ~{2A} (in), 10 2B (in), 11 ~{2R} (in), 12 ~{2Q} (out)
part C pins: 8 GND (power), 16 VCC (power)

## CD74HCT123MT
designator U?
High Speed CMOS Logic Dual Retriggerable Monostable Multivibrators with Reset, D0016A, SMALL T&R; Generic Part Number: CD74HCT123; Manufacturer: Texas Instruments; PartNumber: CD74HCT123MT; VCC(Min)(V): 4.5; VCC(Max)(V): 5.5; ICC @ Nom Voltage(Max)(mA): 0.08; Input Type: TTL; Bits(#): 2; F @ Nom Voltage(Max)(Mhz): 25; Rating: Catalog; Technology Family: HCT; Voltage(Nom)(V): 5; Schmitt Trigger: No; Output Drive (IOL/IOH)(Max)(mA): 4/-4; tpd @ Nom Voltage(Max)(ns): 85; DatasheetVersion: SCHS142F; PackageReference: D0016A; Supplier 1: Mouser; Supplier Part Number 1: 595-CD74HCT123MT; Supplier 2: Digi-Key; Supplier Part Number 2: CD74HCT123MT-ND; Output Type: CMOS; Operating Temperature Range(C): -55 to 125; Code_JEDEC: MS-012 variation AC; ComponentLink1Description: Manufacturer URL; ComponentLink1URL: http://www.ti.com/; ComponentLink2Description: Datasheet; ComponentLink2URL: http://www.ti.com/lit/ds/symlink/cd74hct123.pdf; ComponentLink3Description: Package Specification; ComponentLink3URL: http://www.ti.com/lit/ml/mpds178g/mpds178g.pdf
footprint D0016A_N (SOIC, 16-Leads, Body 10x4mm, Pitch 1.27mm, IPC Medium Density)
footprint D0016A_M (SOIC, 16-Leads, Body 10x4mm, Pitch 1.27mm, IPC Low Density)
footprint D0016A_L (SOIC, 16-Leads, Body 10x4mm, Pitch 1.27mm, IPC High Density)
part A pins: 1 ~{1A} (in), 2 1B (in), 3 ~{1R} (in), 4 ~{1Q} (out), 13 1Q (out), 14 1CX, 15 1RXCX
part B pins: 5 2Q (out), 6 2CX, 7 2RXCX, 9 ~{2A} (in), 10 2B (in), 11 ~{2R} (in), 12 ~{2Q} (out)
part C pins: 8 GND (power), 16 VCC (power)

## CD74HCT137E
designator U?
High Speed CMOS Logic 3-to-8 Line Decoder/Demultiplexer with Address Latches, N0016A, TUBE; Generic Part Number: CD74HCT137; Manufacturer: Texas Instruments; PartNumber: CD74HCT137E; VCC(Min)(V): 4.5; VCC(Max)(V): 5.5; ICC @ Nom Voltage(Max)(mA): 0.08; Input Type: TTL; Bits(#): 8; F @ Nom Voltage(Max)(Mhz): 25; Configuration: 3：8; Channels(#): 1; Rating: Catalog; Technology Family: HCT; Voltage(Nom)(V): 5; Schmitt Trigger: No; Output Drive (IOL/IOH)(Max)(mA): 4/-4; tpd @ Nom Voltage(Max)(ns): 16; DatasheetVersion: SCHS146F; PackageReference: N0016A; Supplier 1: Mouser; Supplier Part Number 1: 595-CD74HCT137E; Supplier 2: Digi-Key; Supplier Part Number 2: 296-33129-5-ND; Output Type: CMOS; Function: Decoder/Demultiplexer; Operating Temperature Range(C): -55 to 125; Type: Standard; Code_JEDEC: MS-001; ComponentLink1Description: Manufacturer URL; ComponentLink1URL: http://www.ti.com/; ComponentLink2Description: Datasheet; ComponentLink2URL: http://www.ti.com/lit/ds/symlink/cd74hct137.pdf; ComponentLink3Description: Package Specification; ComponentLink3URL: http://www.ti.com/lit/ml/mpdi002c/mpdi002c.pdf
footprint N0016A (DIP, 16-Leads, Body 19.7x6.6mm, Pitch 2.54mm)
pins: 1 A0 (in), 2 A1 (in), 3 A2 (in), 4 LE (in), 5 ~{OE}1 (in), 6 OE0 (in), 7 ~{Y}7 (out), 8 GND (power), 9 ~{Y}6 (out), 10 ~{Y}5 (out), 11 ~{Y}4 (out), 12 ~{Y}3 (out), 13 ~{Y}2 (out), 14 ~{Y}1 (out), 15 ~{Y}0 (out), 16 VCC (power)

## CD74HCT137M96
designator U?
High Speed CMOS Logic 3-to-8 Line Decoder/Demultiplexer with Address Latches, D0016A, LARGE T&R; Generic Part Number: CD74HCT137; Manufacturer: Texas Instruments; PartNumber: CD74HCT137M96; VCC(Min)(V): 4.5; VCC(Max)(V): 5.5; ICC @ Nom Voltage(Max)(mA): 0.08; Input Type: TTL; Bits(#): 8; F @ Nom Voltage(Max)(Mhz): 25; Configuration: 3：8; Channels(#): 1; Rating: Catalog; Technology Family: HCT; Voltage(Nom)(V): 5; Schmitt Trigger: No; Output Drive (IOL/IOH)(Max)(mA): 4/-4; tpd @ Nom Voltage(Max)(ns): 16; DatasheetVersion: SCHS146F; PackageReference: D0016A; Supplier 1: Mouser; Supplier Part Number 1: 595-CD74HCT137M96; Supplier 2: Digi-Key; Supplier Part Number 2: 296-38071-2-ND; Supplier 3: Digi-Key; Supplier Part Number 3: 296-38071-1-ND; Supplier 4: Digi-Key; Supplier Part Number 4: 296-38071-6-ND; Output Type: CMOS; Function: Decoder/Demultiplexer; Operating Temperature Range(C): -55 to 125; Type: Standard; Code_JEDEC: MS-012 variation AC; ComponentLink1Description: Manufacturer URL; ComponentLink1URL: http://www.ti.com/; ComponentLink2Description: Datasheet; ComponentLink2URL: http://www.ti.com/lit/ds/symlink/cd74hct137.pdf; ComponentLink3Description: Package Specification; ComponentLink3URL: http://www.ti.com/lit/ml/mpds178g/mpds178g.pdf
footprint D0016A_N (SOIC, 16-Leads, Body 10x4mm, Pitch 1.27mm, IPC Medium Density)
footprint D0016A_M (SOIC, 16-Leads, Body 10x4mm, Pitch 1.27mm, IPC Low Density)
footprint D0016A_L (SOIC, 16-Leads, Body 10x4mm, Pitch 1.27mm, IPC High Density)
pins: 1 A0 (in), 2 A1 (in), 3 A2 (in), 4 LE (in), 5 ~{OE}1 (in), 6 OE0 (in), 7 ~{Y}7 (out), 8 GND (power), 9 ~{Y}6 (out), 10 ~{Y}5 (out), 11 ~{Y}4 (out), 12 ~{Y}3 (out), 13 ~{Y}2 (out), 14 ~{Y}1 (out), 15 ~{Y}0 (out), 16 VCC (power)

## CD74HCT137MT
designator U?
High Speed CMOS Logic 3-to-8 Line Decoder/Demultiplexer with Address Latches, D0016A, SMALL T&R; Generic Part Number: CD74HCT137; Manufacturer: Texas Instruments; PartNumber: CD74HCT137MT; VCC(Min)(V): 4.5; VCC(Max)(V): 5.5; ICC @ Nom Voltage(Max)(mA): 0.08; Input Type: TTL; Bits(#): 8; F @ Nom Voltage(Max)(Mhz): 25; Configuration: 3：8; Channels(#): 1; Rating: Catalog; Technology Family: HCT; Voltage(Nom)(V): 5; Schmitt Trigger: No; Output Drive (IOL/IOH)(Max)(mA): 4/-4; tpd @ Nom Voltage(Max)(ns): 16; DatasheetVersion: SCHS146F; PackageReference: D0016A; Supplier 1: Mouser; Supplier Part Number 1: 595-CD74HCT137MT; Supplier 2: Digi-Key; Supplier Part Number 2: 296-32080-2-ND; Supplier 3: Digi-Key; Supplier Part Number 3: 296-32080-1-ND; Supplier 4: Digi-Key; Supplier Part Number 4: 296-32080-6-ND; Output Type: CMOS; Function: Decoder/Demultiplexer; Operating Temperature Range(C): -55 to 125; Type: Standard; Code_JEDEC: MS-012 variation AC; ComponentLink1Description: Manufacturer URL; ComponentLink1URL: http://www.ti.com/; ComponentLink2Description: Datasheet; ComponentLink2URL: http://www.ti.com/lit/ds/symlink/cd74hct137.pdf; ComponentLink3Description: Package Specification; ComponentLink3URL: http://www.ti.com/lit/ml/mpds178g/mpds178g.pdf
footprint D0016A_N (SOIC, 16-Leads, Body 10x4mm, Pitch 1.27mm, IPC Medium Density)
footprint D0016A_M (SOIC, 16-Leads, Body 10x4mm, Pitch 1.27mm, IPC Low Density)
footprint D0016A_L (SOIC, 16-Leads, Body 10x4mm, Pitch 1.27mm, IPC High Density)
pins: 1 A0 (in), 2 A1 (in), 3 A2 (in), 4 LE (in), 5 ~{OE}1 (in), 6 OE0 (in), 7 ~{Y}7 (out), 8 GND (power), 9 ~{Y}6 (out), 10 ~{Y}5 (out), 11 ~{Y}4 (out), 12 ~{Y}3 (out), 13 ~{Y}2 (out), 14 ~{Y}1 (out), 15 ~{Y}0 (out), 16 VCC (power)

## CD74HCT138E
designator U?
High Speed CMOS Logic 3-to-8 Line Decoder/Demultiplexer Inverting and Non-Inverting, N0016A, TUBE; Generic Part Number: CD74HCT138; Manufacturer: Texas Instruments; PartNumber: CD74HCT138E; VCC(Min)(V): 4.5; VCC(Max)(V): 5.5; ICC @ Nom Voltage(Max)(mA): 0.08; Input Type: TTL; Bits(#): 8; F @ Nom Voltage(Max)(Mhz): 25; Configuration: 3：8; Channels(#): 1; Rating: Catalog; Technology Family: HCT; Voltage(Nom)(V): 5; Schmitt Trigger: No; Output Drive (IOL/IOH)(Max)(mA): 4/-4; tpd @ Nom Voltage(Max)(ns): 35; DatasheetVersion: SCHS147I; PackageReference: N0016A; Supplier 1: Mouser; Supplier Part Number 1: 595-CD74HCT138E; Supplier 2: Digi-Key; Supplier Part Number 2: 296-2091-5-ND; Output Type: CMOS; Function: Decoder/Demultiplexer; Operating Temperature Range(C): -55 to 125; Type: Standard; Code_JEDEC: MS-001; ComponentLink1Description: Manufacturer URL; ComponentLink1URL: http://www.ti.com/; ComponentLink2Description: Datasheet; ComponentLink2URL: http://www.ti.com/lit/ds/symlink/cd74hct138.pdf; ComponentLink3Description: Package Specification; ComponentLink3URL: http://www.ti.com/lit/ml/mpdi002c/mpdi002c.pdf
footprint N0016A (DIP, 16-Leads, Body 19.7x6.6mm, Pitch 2.54mm)
pins: 1 A0 (in), 2 A1 (in), 3 A2 (in), 4 ~{E1} (in), 5 ~{E2} (in), 6 E3 (in), 7 ~{Y7} (out), 8 GND (power), 9 ~{Y6} (out), 10 ~{Y5} (out), 11 ~{Y4} (out), 12 ~{Y3} (out), 13 ~{Y2} (out), 14 ~{Y1} (out), 15 ~{Y0} (out), 16 VCC (power)

## CD74HCT138M
designator U?
High Speed CMOS Logic 3-to-8 Line Decoder/Demultiplexer Inverting and Non-Inverting, D0016A, TUBE; Generic Part Number: CD74HCT138; Manufacturer: Texas Instruments; PartNumber: CD74HCT138M; VCC(Min)(V): 4.5; VCC(Max)(V): 5.5; ICC @ Nom Voltage(Max)(mA): 0.08; Input Type: TTL; Bits(#): 8; F @ Nom Voltage(Max)(Mhz): 25; Configuration: 3：8; Channels(#): 1; Rating: Catalog; Technology Family: HCT; Voltage(Nom)(V): 5; Schmitt Trigger: No; Output Drive (IOL/IOH)(Max)(mA): 4/-4; tpd @ Nom Voltage(Max)(ns): 35; DatasheetVersion: SCHS147I; PackageReference: D0016A; Supplier 1: Mouser; Supplier Part Number 1: 595-CD74HCT138M; Supplier 2: Digi-Key; Supplier Part Number 2: 296-12832-5-ND; Output Type: CMOS; Function: Decoder/Demultiplexer; Operating Temperature Range(C): -55 to 125; Type: Standard; Code_JEDEC: MS-012 variation AC; ComponentLink1Description: Manufacturer URL; ComponentLink1URL: http://www.ti.com/; ComponentLink2Description: Datasheet; ComponentLink2URL: http://www.ti.com/lit/ds/symlink/cd74hct138.pdf; ComponentLink3Description: Package Specification; ComponentLink3URL: http://www.ti.com/lit/ml/mpds178g/mpds178g.pdf
footprint D0016A_N (SOIC, 16-Leads, Body 10x4mm, Pitch 1.27mm, IPC Medium Density)
footprint D0016A_M (SOIC, 16-Leads, Body 10x4mm, Pitch 1.27mm, IPC Low Density)
footprint D0016A_L (SOIC, 16-Leads, Body 10x4mm, Pitch 1.27mm, IPC High Density)
pins: 1 A0 (in), 2 A1 (in), 3 A2 (in), 4 ~{E1} (in), 5 ~{E2} (in), 6 E3 (in), 7 ~{Y7} (out), 8 GND (power), 9 ~{Y6} (out), 10 ~{Y5} (out), 11 ~{Y4} (out), 12 ~{Y3} (out), 13 ~{Y2} (out), 14 ~{Y1} (out), 15 ~{Y0} (out), 16 VCC (power)

## CD74HCT138M96
designator U?
High Speed CMOS Logic 3-to-8 Line Decoder/Demultiplexer Inverting and Non-Inverting, D0016A, LARGE T&R; Generic Part Number: CD74HCT138; Manufacturer: Texas Instruments; PartNumber: CD74HCT138M96; VCC(Min)(V): 4.5; VCC(Max)(V): 5.5; ICC @ Nom Voltage(Max)(mA): 0.08; Input Type: TTL; Bits(#): 8; F @ Nom Voltage(Max)(Mhz): 25; Configuration: 3：8; Channels(#): 1; Rating: Catalog; Technology Family: HCT; Voltage(Nom)(V): 5; Schmitt Trigger: No; Output Drive (IOL/IOH)(Max)(mA): 4/-4; tpd @ Nom Voltage(Max)(ns): 35; DatasheetVersion: SCHS147I; PackageReference: D0016A; Supplier 1: Mouser; Supplier Part Number 1: 595-CD74HCT138M96; Supplier 2: Digi-Key; Supplier Part Number 2: 296-14547-2-ND; Supplier 3: Digi-Key; Supplier Part Number 3: 296-14547-1-ND; Supplier 4: Digi-Key; Supplier Part Number 4: 296-14547-6-ND; Output Type: CMOS; Function: Decoder/Demultiplexer; Operating Temperature Range(C): -55 to 125; Type: Standard; Code_JEDEC: MS-012 variation AC; ComponentLink1Description: Manufacturer URL; ComponentLink1URL: http://www.ti.com/; ComponentLink2Description: Datasheet; ComponentLink2URL: http://www.ti.com/lit/ds/symlink/cd74hct138.pdf; ComponentLink3Description: Package Specification; ComponentLink3URL: http://www.ti.com/lit/ml/mpds178g/mpds178g.pdf
footprint D0016A_N (SOIC, 16-Leads, Body 10x4mm, Pitch 1.27mm, IPC Medium Density)
footprint D0016A_M (SOIC, 16-Leads, Body 10x4mm, Pitch 1.27mm, IPC Low Density)
footprint D0016A_L (SOIC, 16-Leads, Body 10x4mm, Pitch 1.27mm, IPC High Density)
pins: 1 A0 (in), 2 A1 (in), 3 A2 (in), 4 ~{E1} (in), 5 ~{E2} (in), 6 E3 (in), 7 ~{Y7} (out), 8 GND (power), 9 ~{Y6} (out), 10 ~{Y5} (out), 11 ~{Y4} (out), 12 ~{Y3} (out), 13 ~{Y2} (out), 14 ~{Y1} (out), 15 ~{Y0} (out), 16 VCC (power)

## CD74HCT139E
designator U?
High Speed CMOS Logic Dual 2-to-4 Line Decoders/Demultiplexers, N0016A, TUBE; Generic Part Number: CD74HCT139; Manufacturer: Texas Instruments; PartNumber: CD74HCT139E; VCC(Min)(V): 4.5; VCC(Max)(V): 5.5; Function: Decoder/Demultiplexer; ICC @ Nom Voltage(Max)(mA): 0.08; Input Type: TTL; Bits(#): 4; F @ Nom Voltage(Max)(Mhz): 25; Configuration: 2：4; Channels(#): 2; Rating: Catalog; Technology Family: HCT; Voltage(Nom)(V): 5; Schmitt Trigger: No; Output Drive (IOL/IOH)(Max)(mA): 4/-4; tpd @ Nom Voltage(Max)(ns): 45; DatasheetVersion: SCHS148D; PackageReference: N0016A; Supplier 1: Mouser; Supplier Part Number 1: 595-CD74HCT139E; Supplier 2: Digi-Key; Supplier Part Number 2: 296-2092-5-ND; Output Type: CMOS; Operating Temperature Range(C): -55 to 125; Type: Standard; Code_JEDEC: MS-001; ComponentLink1Description: Manufacturer URL; ComponentLink1URL: http://www.ti.com/; ComponentLink2Description: Datasheet; ComponentLink2URL: http://www.ti.com/lit/ds/symlink/cd74hct139.pdf; ComponentLink3Description: Package Specification; ComponentLink3URL: http://www.ti.com/lit/ml/mpdi002c/mpdi002c.pdf
footprint N0016A (DIP, 16-Leads, Body 19.7x6.6mm, Pitch 2.54mm)
part A pins: 1 ~{1E} (in), 2 1A0 (in), 3 1A1 (in), 4 ~{1Y0} (out), 5 ~{1Y1} (out), 6 ~{1Y2} (out), 7 ~{1Y3} (out)
part B pins: 9 ~{2Y3} (out), 10 ~{2Y2} (out), 11 ~{2Y1} (out), 12 ~{2Y0} (out), 13 2A1 (in), 14 2A0 (in), 15 ~{2E} (in)
part C pins: 8 GND (power), 16 VCC (power)

## CD74HCT139M
designator U?
High Speed CMOS Logic Dual 2-to-4 Line Decoders/Demultiplexers, D0016A, TUBE; Generic Part Number: CD74HCT139; Manufacturer: Texas Instruments; PartNumber: CD74HCT139M; VCC(Min)(V): 4.5; VCC(Max)(V): 5.5; Function: Decoder/Demultiplexer; ICC @ Nom Voltage(Max)(mA): 0.08; Input Type: TTL; Bits(#): 4; F @ Nom Voltage(Max)(Mhz): 25; Configuration: 2：4; Channels(#): 2; Rating: Catalog; Technology Family: HCT; Voltage(Nom)(V): 5; Schmitt Trigger: No; Output Drive (IOL/IOH)(Max)(mA): 4/-4; tpd @ Nom Voltage(Max)(ns): 45; DatasheetVersion: SCHS148D; PackageReference: D0016A; Supplier 1: Mouser; Supplier Part Number 1: 595-CD74HCT139M; Supplier 2: Digi-Key; Supplier Part Number 2: 296-33130-5-ND; Output Type: CMOS; Operating Temperature Range(C): -55 to 125; Type: Standard; Code_JEDEC: MS-012 variation AC; ComponentLink1Description: Manufacturer URL; ComponentLink1URL: http://www.ti.com/; ComponentLink2Description: Datasheet; ComponentLink2URL: http://www.ti.com/lit/ds/symlink/cd74hct139.pdf; ComponentLink3Description: Package Specification; ComponentLink3URL: http://www.ti.com/lit/ml/mpds178g/mpds178g.pdf
footprint D0016A_N (SOIC, 16-Leads, Body 10x4mm, Pitch 1.27mm, IPC Medium Density)
footprint D0016A_M (SOIC, 16-Leads, Body 10x4mm, Pitch 1.27mm, IPC Low Density)
footprint D0016A_L (SOIC, 16-Leads, Body 10x4mm, Pitch 1.27mm, IPC High Density)
part A pins: 1 ~{1E} (in), 2 1A0 (in), 3 1A1 (in), 4 ~{1Y0} (out), 5 ~{1Y1} (out), 6 ~{1Y2} (out), 7 ~{1Y3} (out)
part B pins: 9 ~{2Y3} (out), 10 ~{2Y2} (out), 11 ~{2Y1} (out), 12 ~{2Y0} (out), 13 2A1 (in), 14 2A0 (in), 15 ~{2E} (in)
part C pins: 8 GND (power), 16 VCC (power)